# Altium schematic symbol library GRM1555C1H6R8CA01D.SchLib: 1 symbol
Pins are listed as number, name and electrical type; pins without a type are passive.

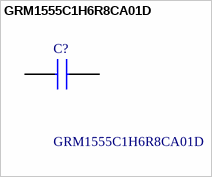
[diagram p0: symbol GRM1555C1H6R8CA01D]

## GRM1555C1H6R8CA01D
designator C?
Murata 0402 GRM 6.8pF Ceramic Multilayer Capacitor, 50 V dc, +125C, C0G Dielectric, +/-0.25pF; Manufacturer_Name: Murata Electronics; Geometry.Height: 0.7mm; Mouser Part Number: 81-GRM1555C1H6R8CA1D; Mouser Price/Stock: https://www.mouser.co.uk/ProductDetail/Murata-Electronics/GRM1555C1H6R8CA01D?qs=q312vENifzChk4Wux6WqXA%3D%3D; Manufacturer_Part_Number: GRM1555C1H6R8CA01D; Datasheet Link: https://search.murata.co.jp/Ceramy/image/img/A01X/G101/ENG/GRM1555C1H6R8CA01-01A.pdf
footprint CAPC1005X70N
pins: 1, 2